# Altium schematic symbol library Schlib1.SchLib: 6 symbols
Pins are listed as number, name and electrical type; pins without a type are passive.

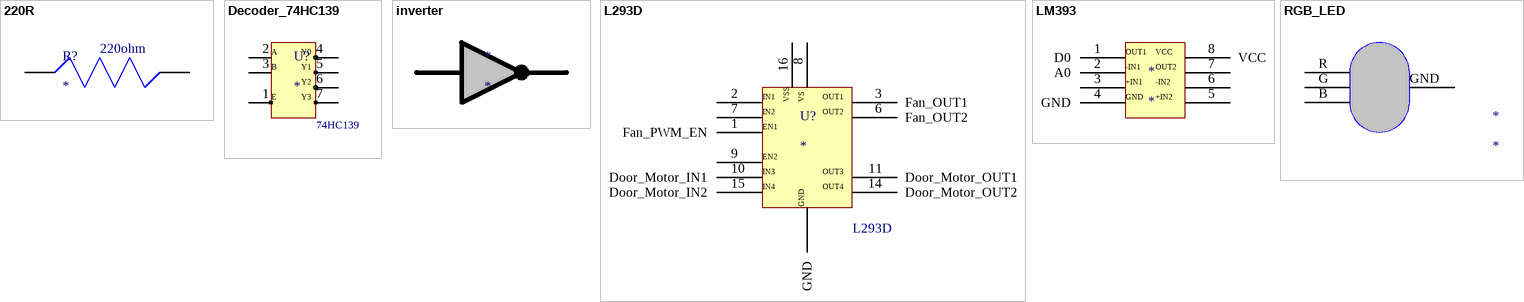
[diagram p0: symbols 220R to RGB_LED]

## 220R
designator R?
Manufacturer: Murata; MPN: BLM18SG221TN1D; SPN: *; Supplier: *
footprint 220ohm (MELF Resistor, 2-Leads, Body 3.50x1.65mm, IPC Medium Density)
text: 220ohm

## Decoder_74HC139
designator U?
Manufacturer: Texas Instruments; MPN: 74hc139; SPN: *; Supplier: *
footprint 74HC139
pins: 1, 2, 3, 4 16, 5 17, 6, 7
text: A; Y0; B; Y1; Y2; E; Y3; 74HC139

## inverter
designator *

## L293D
designator U?
Manufacturer: STMicroelectronics; MPN: L293D; SPN: *; Supplier: *
footprint L293D
pins: 1 Fan_PWM_EN, 2 IN1, 3 Fan_OUT1, 6 Fan_OUT2, 7 IN2, 8 VS, 9 EN2, 10 Door_Motor_IN1, 11 Door_Motor_OUT1, 14 Door_Motor_OUT2, 14 GND, 15 Door_Motor_IN2, 16 VSS
text: OUT1; OUT2; EN1; IN3; OUT3; IN4; OUT4

## LM393
designator *
Manufacturer: STMicroelectronics; MPN: LM393; Supplier: *; SPN: *
footprint LM393
pins: 1 D0, 2 A0, 3, 4 GND, 5, 6, 7, 8 VCC
text: OUT1; -IN1; OUT2; +IN1; -IN2; +IN2

## RGB_LED
designator *
Manufacturer: Lumex; MPN: SML-LX0404SIUPGUSB; SPN: *; Supplier: *
footprint RGB_LED
pins: B, G, GND, R